# Altium footprint library cny70.PCBLIB: 1 footprints
Each footprint in its own frame and in the unit in brackets; x right, y up, seen from the top. Pads: shape width x height; smd on the part's side, far side on the other; paste and mask are expansions set on the pad; w line width, h text height; cw(c..) or ccw(c..) is an arc to the next point about the centre after c.
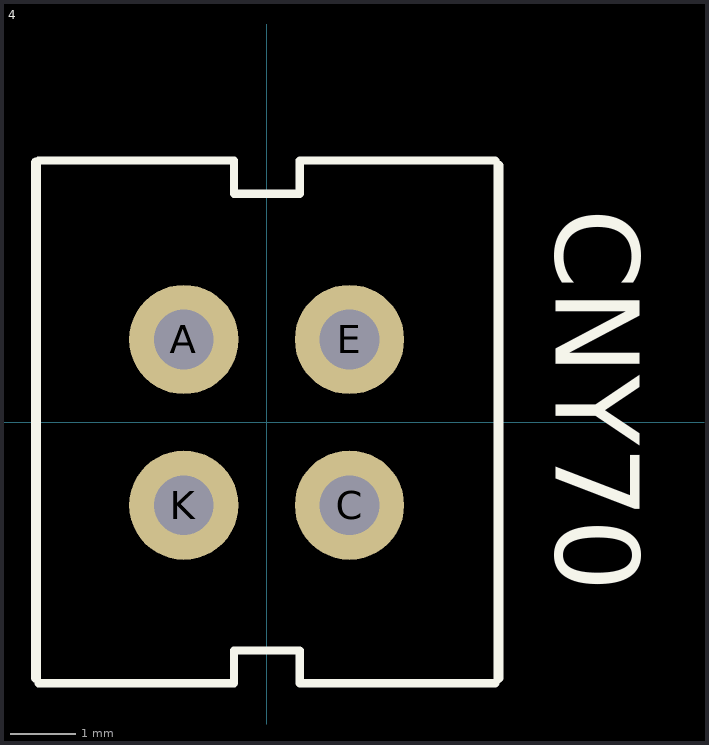
[diagram p0: the footprint, top view; thin cyan lines are the x and y axes]

## 4 [mil]
pads (4):
  round 66 hole 36: A(-50,50) C(50,-50) E(50,50) K(-50,-50)
Top Overlay:
  lines w5: -137.8,-157.48 -19.68,-157.48 -19.68,-137.8 20,-137.8 20,-157.48 138,-157.48 ; -137.8,158 -19.68,158 -19.68,138 20,138 20,158 138,158
  lines w6: -139.37,-154.37 -139.37,157 ; 140,-154.37 140,155
  text "CNY70" at 158,129 h86.8